# EAGLE library part SN74AHCT32-Q1 (library texas-instruments.2)
QUADRUPLE 2-INPUT POSITIVE-OR GATE TI.com - SN74AHCT32-Q1
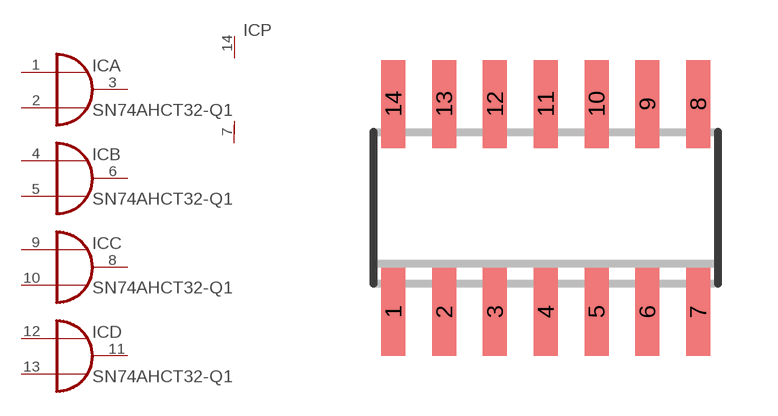
[diagram p1: symbol with the pads of SO14; footprint SO14]

Designator prefix IC; gates A=OR-GATE B=OR-GATE C=OR-GATE D=OR-GATE P=OR-GATE-PWR

## SN74AHCT32-Q1  [SO14]
1  A:IN1
2  A:IN2
3  A:OUT
4  B:IN1
5  B:IN2
6  B:OUT
7  P:GND
8  C:OUT
9  C:IN1
10  C:IN2
11  D:OUT
12  D:IN1
13  D:IN2
14  P:VCC

## Footprint SO14 (pad centres in mm)
14-Lead Narrow-Body SOIC (SO-14) Source: http://www.analog.com/static/imported-files/data_sheets/SSM2166.pdf
smd 0.6 x 2.2: 1 -3.81,-2.6; 2 -2.54,-2.6; 3 -1.27,-2.6; 4 0,-2.6; 5 1.27,-2.6; 6 2.54,-2.6; 7 3.81,-2.6; 8 3.81,2.6; 9 2.54,2.6; 10 1.27,2.6; 11 0,2.6; 12 -1.27,2.6; 13 -2.54,2.6; 14 -3.81,2.6